# EAGLE library part CON-FFC-6-REV (library added_parts)
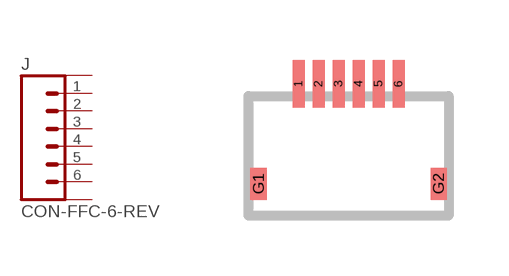
[diagram p20: symbol with the pads of CON-FFC-6; footprint CON-FFC-6]

Designator prefix J

## CON-FFC-6-REV  [CON-FFC-6]
1  1  pas
2  2  pas
3  3  pas
4  4  pas
5  5  pas
6  6  pas
G1  P$1  pas
G2  P$2  pas

## Footprint CON-FFC-6 (pad centres in mm)
smd 0.3 x 1.2: 1 -1.25,1.8; 2 -0.75,1.8; 3 -0.25,1.8; 4 0.25,1.8; 5 0.75,1.8; 6 1.25,1.8
smd 0.4 x 0.8: G1 -2.25,-0.7; G2 2.25,-0.7